# EAGLE library part ATF2500C-15JU (library CPLD)
IC CPLD 24MC 15NS 44PLCC Manufacturer's datasheet <http://ww1.microchip.com/downloads/en/DeviceDoc/doc0777.pdf>
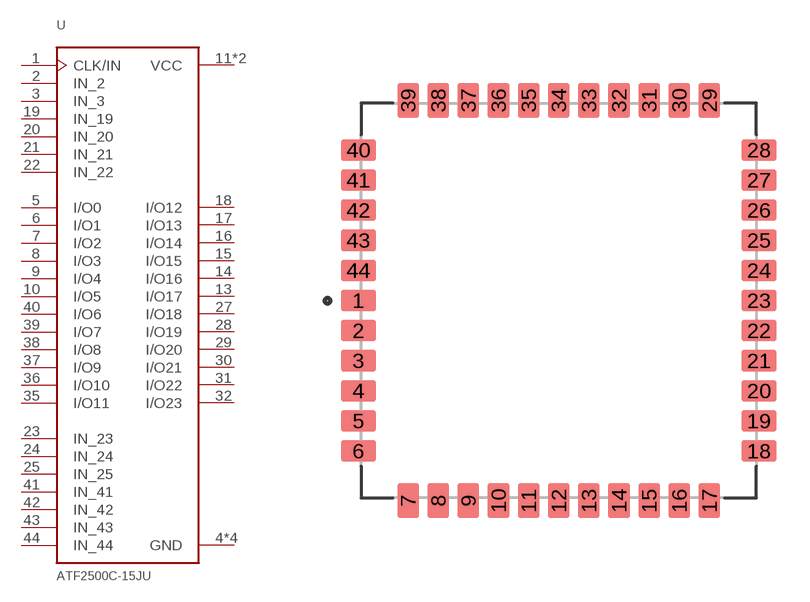
[diagram p9: symbol with the pads of PLCC-44; footprint PLCC-44]

Designator prefix U

## ATF2500C-15JU (CREATED_BY: PCBLayout.com; DIGIKEY_PN: ATF2500C-15JU-ND; MANUFACTURER: Microchip Technology; MPN: ATF2500C-15JU; PACKAGE: PLCC-44)  [PLCC-44]
1  CLK/IN  in
2  IN_2  in
3  IN_3  in
4  GND  pwr
5  I/O0
6  I/O1
7  I/O2
8  I/O3
9  I/O4
10  I/O5
11  VCC  pwr
12  VCC  pwr
13  I/O17
14  I/O16
15  I/O15
16  I/O14
17  I/O13
18  I/O12
19  IN_19  in
20  IN_20  in
21  IN_21  in
22  IN_22  in
23  IN_23  in
24  IN_24  in
25  IN_25  in
26  GND  pwr
27  I/O18
28  I/O19
29  I/O20
30  I/O21
31  I/O22
32  I/O23
33  GND  pwr
34  GND  pwr
35  I/O11
36  I/O10
37  I/O9
38  I/O8
39  I/O7
40  I/O6
41  IN_41  in
42  IN_42  in
43  IN_43  in
44  IN_44  in

## Footprint PLCC-44 (pad centres in mm)
smd 1.48 x 0.91: 1 -8.445,0; 2 -8.445,-1.27; 3 -8.445,-2.54; 4 -8.445,-3.81; 5 -8.445,-5.08; 6 -8.445,-6.35; 18 8.445,-6.35; 19 8.445,-5.08; 20 8.445,-3.81; 21 8.445,-2.54; 22 8.445,-1.27; 23 8.445,0; 24 8.445,1.27; 25 8.445,2.54; 26 8.445,3.81; 27 8.445,5.08; 28 8.445,6.35; 40 -8.445,6.35; 41 -8.445,5.08; 42 -8.445,3.81; 43 -8.445,2.54; 44 -8.445,1.27
smd 0.91 x 1.48: 7 -6.35,-8.445; 8 -5.08,-8.445; 9 -3.81,-8.445; 10 -2.54,-8.445; 11 -1.27,-8.445; 12 0,-8.445; 13 1.27,-8.445; 14 2.54,-8.445; 15 3.81,-8.445; 16 5.08,-8.445; 17 6.35,-8.445; 29 6.35,8.445; 30 5.08,8.445; 31 3.81,8.445; 32 2.54,8.445; 33 1.27,8.445; 34 0,8.445; 35 -1.27,8.445; 36 -2.54,8.445; 37 -3.81,8.445; 38 -5.08,8.445; 39 -6.35,8.445